# EAGLE library part ESP8266_V1 (library 1_domaci)
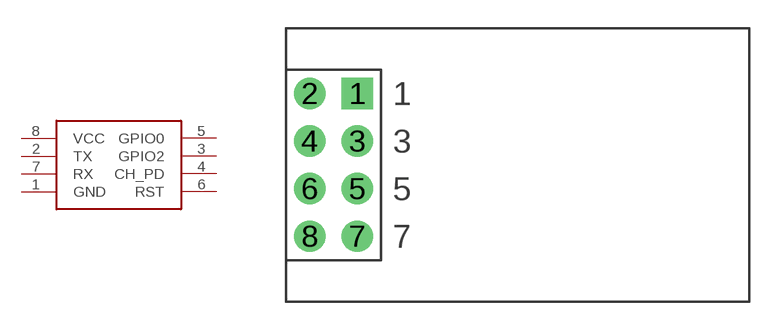
[diagram p7: symbol with the pads of ESP8266_V1; footprint ESP8266_V1]

Designator prefix U

## ESP8266_V1  [ESP8266_V1]
1  GND  pwr
2  TX
3  GPIO2
4  CH_PD
5  GPIO0
6  RST
7  RX
8  VCC  pwr

## Footprint ESP8266_V1 (pad centres in mm)
drill 0.9 pad 1.676 square: 1 -10.16,3.81
drill 0.9 pad 1.676: 2 -12.7,3.81; 3 -10.16,1.27; 4 -12.7,1.27; 5 -10.16,-1.27; 6 -12.7,-1.27; 7 -10.16,-3.81; 8 -12.7,-3.81